# Altium integrated library mylib.IntLib: 1 symbol
Pins are listed as number, name and electrical type; pins without a type are passive.

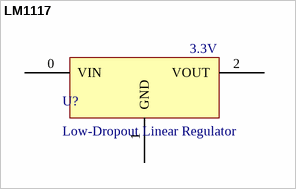
[diagram p0: symbol LM1117]

## LM1117
designator U?, comment Low-Dropout Linear Regulator  output voltage: 3.3V
The LM1117 is a low dropout voltage regulator with a / dropout of 1.2 V at 800 mA of load current; ComponentLink1Description: datasheet; ComponentLink1URL: https://www.ti.com/lit/gpn/LM1117
footprint 4-Pin SOT
pins: 0 VIN, 1 GND, 2 VOUT